# Altium schematic symbol library OLED_0.96_I2C.SchLib: 1 symbol
Pins are listed as number, name and electrical type; pins without a type are passive.

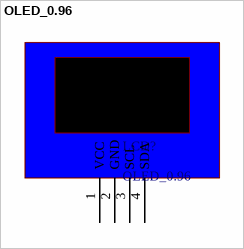
[diagram p0: symbol OLED_0.96]

## OLED_0.96
designator LCD?
footprint OLED0.96
pins: 1 VCC, 2 GND, 3 SCL, 4 SDA